# Altium footprint library STM32F746_AppBoard.PcbLib: 38 footprints (part 1 of 3)
Each footprint in its own frame and in the unit in brackets; x right, y up, seen from the top. Pads: shape width x height; smd on the part's side, far side on the other; paste and mask are expansions set on the pad; w line width, h text height; cw(c..) or ccw(c..) is an arc to the next point about the centre after c.
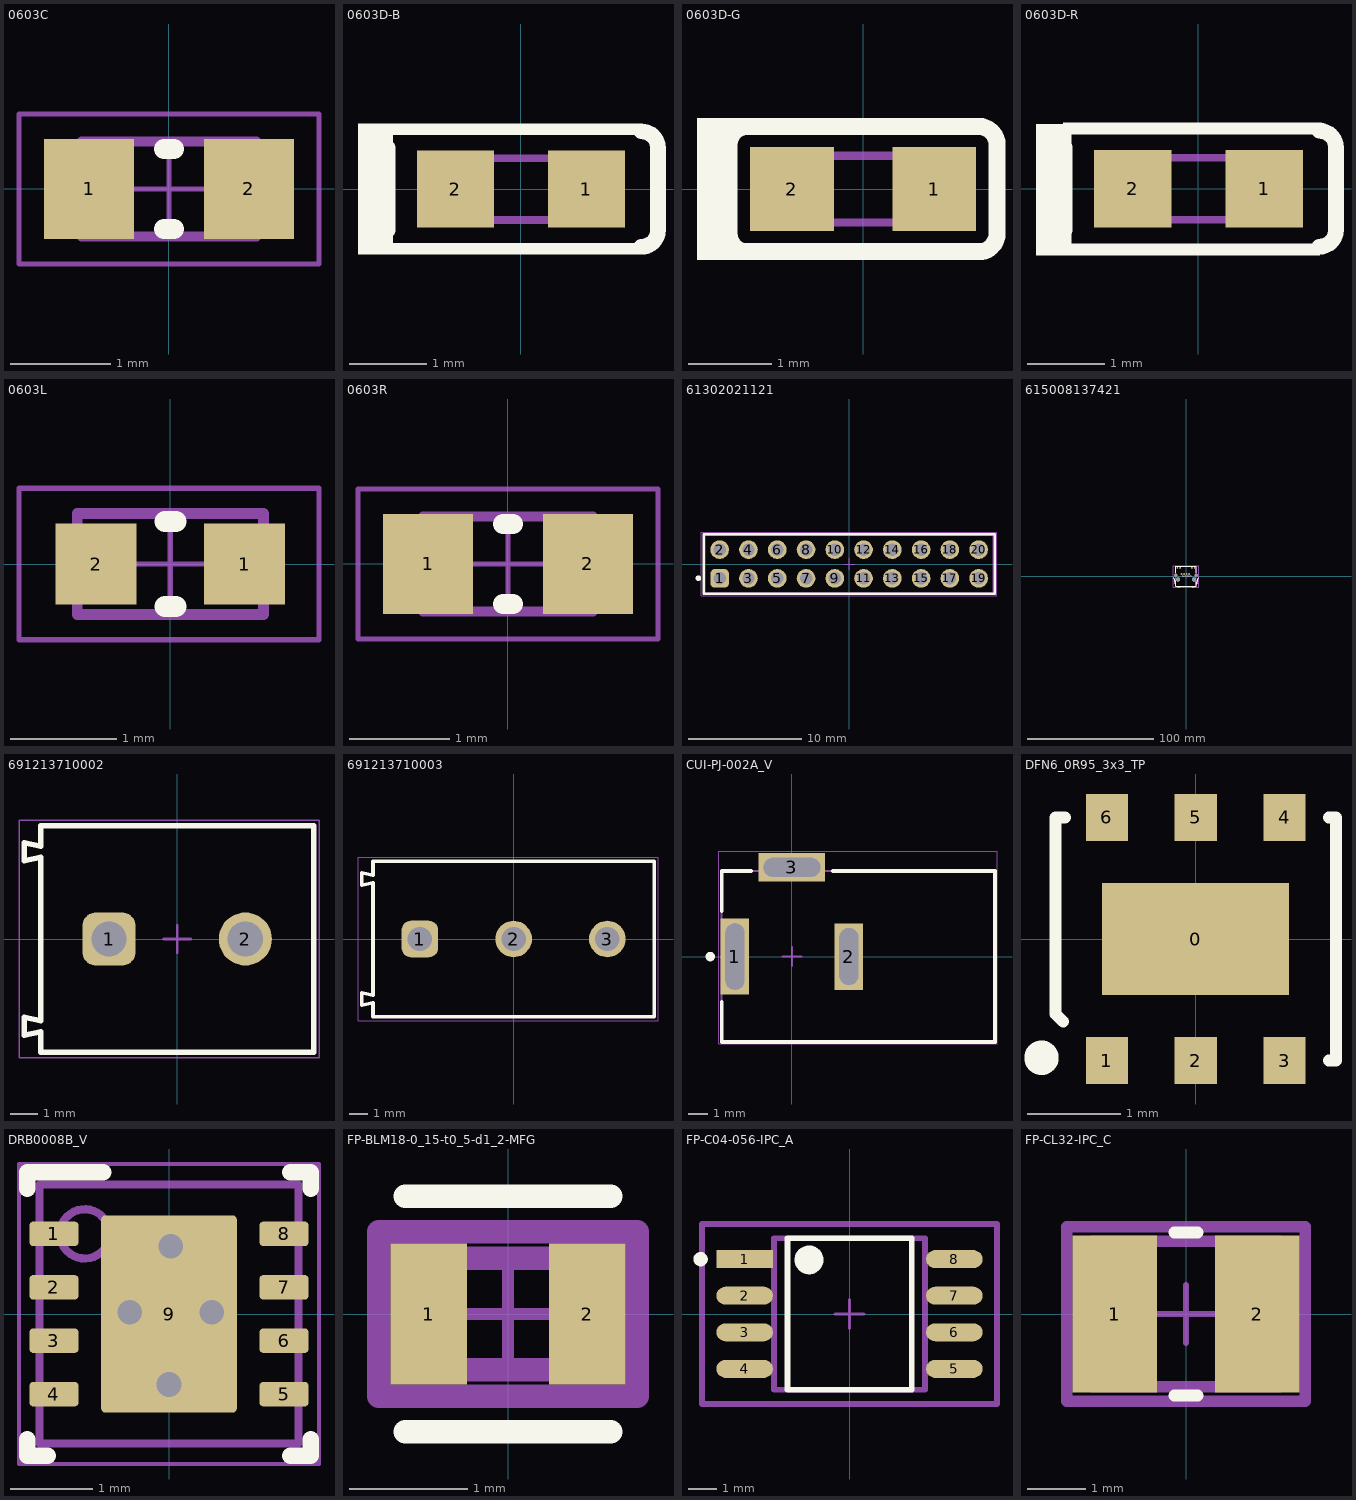
[diagram p0: the footprints below, top view; thin cyan lines are the x and y axes]

## 0603C [mm] "Chip Capacitor, Body 1.6x0.8mm, Height 1.0mm, IPC Medium Density"
height 1
pads (2):
  rect 0.9x1 smd: 1(-0.8,0) 2(0.8,0)
Top Overlay:
  lines w0.2: -0.05,-0.4 0.05,-0.4 ; -0.05,0.4 0.05,0.4
Mechanical 13:
  lines w0.1: -0.875,-0.475 0.875,-0.475 0.875,0.475 -0.875,0.475 -0.875,-0.475
Mechanical 15:
  lines w0.05: -0.475,0 0.475,0 ; 0,-0.475 0,0.475 ; -1.5,-0.75 1.5,-0.75 1.5,0.75 -1.5,0.75 -1.5,-0.75
3D body: height 1, standoff 0, extent 0.525,-0.475 0.875,0.475
3D body: height 1, standoff 0, extent -0.875,-0.475 -0.525,0.475
3D body: height 1, standoff 0, extent -0.525,-0.475 0.525,0.475

## 0603D-B [mm] "LED, SMT, Body 1.6 x 0.8 mm, 0.25mm Thickness"
height 0.25
pads (2):
  rect 1x1 smd paste+0 mask+0: 1(0.85,0) 2(-0.85,0)
Top Overlay:
  rectangle: -1.778,0.703 1.575,0.853
  rectangle: -2.115,-0.849 -1.658,0.852
  rectangle: -1.778,-0.85 1.575,-0.7
  lines w0.203: -1.729,-0.533 -1.729,0.533 ; 1.564,-0.749 ccw(c1.564,-0.533) 1.779,-0.533 1.779,0.533 ccw(c1.564,0.533) 1.564,0.749
Mechanical 7:
  lines w0.1: -0.8,-0.4 -0.8,0.4 0.8,0.4 0.8,-0.4 -0.8,-0.4
3D body: height 0.1, standoff 0, extent -0.8,-0.4 0.8,0.4
3D body: height 0.2, standoff 0.15, extent -0.254,-0.254 0.254,0.254
3D body: height 0.25, standoff 0.1, extent -0.6,-0.4 0.6,0.4

## 0603D-G [mm] "LED, SMT, Body 1.6 x 0.8 mm, 0.25mm Thickness"
height 0.25
pads (2):
  rect 1x1 smd paste+0 mask+0: 1(0.85,0) 2(-0.85,0)
Top Overlay:
  rectangle: -1.794,0.666 -1.144,0.852
  rectangle: -1.985,-0.85 -1.528,0.852
  rectangle: -1.794,-0.85 -1.21,-0.685
  lines w0.203: -1.602,-0.533 ccw(c-1.386,-0.533) -1.386,-0.749 1.386,-0.749 ccw(c1.386,-0.533) 1.602,-0.533 1.602,0.533 ccw(c1.386,0.533) 1.386,0.749 -1.386,0.749 ccw(c-1.386,0.533) -1.602,0.533 -1.602,-0.533
Mechanical 7:
  lines w0.1: -0.8,-0.4 -0.8,0.4 0.8,0.4 0.8,-0.4 -0.8,-0.4
3D body: height 0.1, standoff 0, extent -0.8,-0.4 0.8,0.4
3D body: height 0.2, standoff 0.15, extent -0.254,-0.254 0.254,0.254
3D body: height 0.25, standoff 0.1, extent -0.6,-0.4 0.6,0.4

## 0603D-R [mm] "LED, SMT, Body 1.6 x 0.8 mm, 0.25mm Thickness"
height 0.25
pads (2):
  rect 1x1 smd paste+0 mask+0: 1(0.85,0) 2(-0.85,0)
Top Overlay:
  rectangle: -1.778,-0.861 1.575,-0.711
  rectangle: -2.102,-0.861 -1.645,0.841
  rectangle: -1.753,0.705 1.6,0.855
  lines w0.203: -1.729,-0.533 -1.729,0.533 ; 1.564,-0.749 ccw(c1.564,-0.533) 1.779,-0.533 1.779,0.533 ccw(c1.564,0.533) 1.564,0.749
Mechanical 7:
  lines w0.1: -0.8,-0.4 -0.8,0.4 0.8,0.4 0.8,-0.4 -0.8,-0.4
3D body: height 0.1, standoff 0, extent -0.8,-0.4 0.8,0.4
3D body: height 0.2, standoff 0.15, extent -0.254,-0.254 0.254,0.254
3D body: height 0.25, standoff 0.1, extent -0.6,-0.4 0.6,0.4

## 0603L [mil] "Bead 0603L"
height 39.37
pads (2):
  rect 30x30 smd: 1(27.5,0) 2(-27.5,0)
Top Overlay:
  lines w7.87: -1.97,-15.74 1.97,-15.74 -1.97,-15.75 ; -1.97,15.75 1.97,15.75 -1.97,15.75
Mechanical 13:
  lines w3.94: -34.45,-18.7 -34.45,18.7 34.45,18.7 34.45,-18.7 -34.45,-18.7
Mechanical 15:
  lines w1.97: -18.7,0 18.7,0 ; 0,-18.7 0,18.7 ; -56,-28 55,-28 55,28 -56,28 -56,-28
3D body: height 23.62, standoff 0, extent -20.67,-18.7 20.67,18.7
3D body: height 23.62, standoff 0, extent -34.45,-18.7 -20.67,18.7
3D body: height 23.62, standoff 0, extent 20.67,-18.7 34.45,18.7

## 0603R [mm] "Chip Resistor, Body 1.6x0.8mm, IPC Medium Density"
height 0.6
pads (2):
  rect 0.9x1 smd: 1(-0.8,0) 2(0.8,0)
Top Overlay:
  lines w0.2: -0.05,-0.4 0.05,-0.4 ; -0.05,0.4 0.05,0.4
Mechanical 13:
  lines w0.1: -0.85,-0.475 -0.85,0.475 0.85,0.475 0.85,-0.475 -0.85,-0.475
Mechanical 15:
  lines w0.05: -0.475,0 0.475,0 ; 0,-0.475 0,0.475 ; -1.5,-0.75 -1.5,0.75 1.5,0.75 1.5,-0.75 -1.5,-0.75
3D body: height 0.6, standoff 0, extent 0.581,-0.474 0.85,0.475
3D body: height 0.6, standoff 0, extent -0.58,-0.474 0.581,0.475
3D body: height 0.6, standoff 0, extent -0.849,-0.474 -0.58,0.475

## 61302021121 [mm] "Pin Header, pitch 2.54 mm, THT, Vertical, dual row, 20p"
height 8.54
pads (20):
  rrect50% 1.65x1.65 hole 1.1: 1(-11.43,-1.27)
  round 1.65 hole 1.1: 2(-11.43,1.27) 3(-8.89,-1.27) 4(-8.89,1.27) 5(-6.35,-1.27) 6(-6.35,1.27) 7(-3.81,-1.27) 8(-3.81,1.27) 9(-1.27,-1.27) 10(-1.27,1.27) 11(1.27,-1.27) 12(1.27,1.27) 13(3.81,-1.27) 14(3.81,1.27) 15(6.35,-1.27) 16(6.35,1.27) 17(8.89,-1.27) 18(8.89,1.27) 19(11.43,-1.27) 20(11.43,1.27)
Top Overlay:
  circle w0.25: c-13.31,-1.25 r0.125
  lines w0.2: -12.85,-2.615 -12.85,2.615 12.85,2.615 12.85,-2.615 -12.85,-2.615
Top Courtyard:
  lines w0.05: -13.05,-2.815 13.05,-2.815 13.05,2.815 -13.05,2.815 -13.05,-2.815
Top Component Outline:
  lines w0.1: -12.7,-2.54 -12.7,2.54 12.7,2.54 12.7,-2.54 -12.7,-2.54
Top Designator:
  text ".Designator" at -3.999,-0.267 h0.8
Top Component Center:
  lines w0.05: -0.5,0 0.5,0 ; 0,-0.5 0,0.5
3D body "61302021121.stp": height 8.59, standoff -2.95, extent -12.7,-2.54 12.7,2.54

## 615008137421 [mm] "Modular Jack Horizontal Shielded with LED and EMI Panel Finger 8P8C Tab Up"
height 13.25
pads (16):
  rect 1.3x1.3 hole 0.8: 1(3.57,0.125)
  round 1.3 hole 0.8: 2(2.55,1.905) 3(1.53,0.125) 4(0.51,1.905) 5(-0.51,0.125) 6(-1.53,1.905) 7(-2.55,0.125) 8(-3.57,1.905) 9(-6.86,6.725) 10(-4.57,6.725) 11(4.57,6.725) 12(6.86,6.725)
  round 3.25 hole 3.25 unplated: MH1(-6.35,-2.415) MH2(6.35,-2.415)
  round 2.5 hole 1.7: S1(-8.125,1.015) S2(8.125,1.015)
Top Overlay:
  lines w0.2: -9.795,-1.045 cw(c-10.325,-1.565) -9.589,-1.46 ccw(c54.385,9.851) -8.911,-4.786 ccw(c30.346,12.141) -8.542,-5.618 cw(c-11.997,-7.419) -8.25,-6.35 ; -8.25,-3.624 -8.25,-7.875 8.25,-7.875 8.25,-3.599 ; -8.25,3.001 -8.25,7.875 8.25,7.875 8.25,2.976 ; -6.918,-7.874 ccw(c-5.71,-6.351) -4.503,-7.874 ; 4.503,-7.874 ccw(c5.71,-6.351) 6.918,-7.874 ; 8.25,-6.35 cw(c11.997,-7.419) 8.542,-5.618 ccw(c-30.346,12.141) 8.911,-4.786 ccw(c-54.385,9.851) 9.589,-1.46 cw(c10.325,-1.565) 9.795,-1.045
Mechanical 13:
  lines w0.1: -9.795,-1.045 cw(c-10.325,-1.565) -9.589,-1.46 ccw(c54.385,9.851) -8.911,-4.786 ccw(c30.346,12.141) -8.542,-5.618 cw(c-11.997,-7.419) -8.25,-6.35 ; -6.918,-7.874 ccw(c-5.71,-6.351) -4.503,-7.874 ; 4.503,-7.874 ccw(c5.71,-6.351) 6.918,-7.874 ; 8.25,-6.35 cw(c11.997,-7.419) 8.542,-5.618 ccw(c-30.346,12.141) 8.911,-4.786 ccw(c-54.385,9.851) 9.589,-1.46 cw(c10.325,-1.565) 9.795,-1.045 ; -8.25,-7.875 -8.25,7.875 8.25,7.875 8.25,-7.875 -8.25,-7.875
Mechanical 15:
  lines w0.05: -0.5,0 0.5,0 ; 0,-0.5 0,0.5 ; -10,-8.52 10,-8.52 10,8.32 -10,8.32 -10,-8.52
3D body "615008137421 (rev1).stp": height 15.13, standoff -3.31, extent -9.875,-8.33 9.875,8.12

## 691213710002 [mm] "5,00mm - modular - green - Horizontal entry with rising cage clamp -  10,0mm height - 02p"
height 10
pads (2):
  rrect50% 1.95x1.95 hole 1.3: 1(-2.5,0)
  round 1.95 hole 1.3: 2(2.5,0)
Top Overlay:
  lines w0.2: -5.6,-3.525 -5.6,-2.875 -5,-3 -5,3 -5.6,2.875 -5.6,3.525 -5,3.4 -5,4.15 5,4.15 5,-4.15 -5,-4.15 -5,-3.4 -5.6,-3.525
Top 3D Body:
  lines w0.1: -5.6,-3.525 -5.6,-2.875 -5,-3 -5,3 -5.6,2.875 -5.6,3.525 -5,3.4 -5,4.15 5,4.15 5,-4.15 -5,-4.15 -5,-3.4 -5.6,-3.525
Top Courtyard:
  lines w0.05: -5.8,-4.35 5.2,-4.35 5.2,4.35 -5.8,4.35 -5.8,-4.35
Top Assembly:
  lines w0.1: -5.6,-3.525 -5,-3.4 -5,-4.15 5,-4.15 5,4.15 -5,4.15 -5,3.4 -5.6,3.525 -5.6,2.875 -5,3 -5,-3 -5.6,-2.875 -5.6,-3.525
Top Designator:
  text ".Designator" at -2.917,-0.286 h0.8
Top Component Center:
  lines w0.1: -0.5,0 0.5,0 ; 0,-0.5 0,0.5
3D body "691213710002.stp": height 10.05, standoff -3.75, extent -5.6,-4.15 5,4.15

## 691213710003 [mm] "5,00mm - modular - green - Horizontal entry with rising cage clamp -  10,0mm height - 03p"
height 10
pads (3):
  rrect50% 1.95x1.95 hole 1.3: 1(-5,0)
  round 1.95 hole 1.3: 2(0,0) 3(5,0)
Top Overlay:
  lines w0.2: -8.1,-3.525 -8.1,-2.875 -7.5,-3 -7.5,3 -8.1,2.875 -8.1,3.525 -7.5,3.4 -7.5,4.15 7.5,4.15 7.5,-4.15 -7.5,-4.15 -7.5,-3.4 -8.1,-3.525
Top 3D Body:
  lines w0.1: -8.1,-3.525 -8.1,-2.875 -7.5,-3 -7.5,3 -8.1,2.875 -8.1,3.525 -7.5,3.4 -7.5,4.15 7.5,4.15 7.5,-4.15 -7.5,-4.15 -7.5,-3.4 -8.1,-3.525
Top Courtyard:
  lines w0.05: -8.3,-4.35 7.7,-4.35 7.7,4.35 -8.3,4.35 -8.3,-4.35
Top Assembly:
  lines w0.1: -8.1,-3.525 -7.5,-3.4 -7.5,-4.15 7.5,-4.15 7.5,4.15 -7.5,4.15 -7.5,3.4 -8.1,3.525 -8.1,2.875 -7.5,3 -7.5,-3 -8.1,-2.875 -8.1,-3.525
Top Designator:
  text ".Designator" at -2.917,-0.286 h0.8
Top Component Center:
  lines w0.1: -0.5,0 0.5,0 ; 0,-0.5 0,0.5
3D body "691213710003.stp": height 10.05, standoff -3.75, extent -8.1,-4.15 7.5,4.15

## CUI-PJ-002A_V [mm] "THD, 3-Leads, Body 14.4x9mm, Height 11mm"
height 11
pads (3):
  rect 1.5x4 hole 1 slot 3.5 at 90 deg: 1(-3,0)
  rect 1.5x3.5 hole 1 slot 3 at 90 deg: 2(3,0)
  rect 3.5x1.5 hole 1 slot 3 at 0 deg: 3(0,4.7)
Top Overlay:
  circle w0.25: c-4.3,0 r0.125
  lines w0.2: -3.7,-2.4 -3.7,-4.5 10.7,-4.5 10.7,4.5 2.15,4.5 ; -3.7,2.4 -3.7,4.5 -2.15,4.5
Mechanical 13:
  lines w0.1: -3.7,-4.5 -3.7,4.5 10.7,4.5 10.7,-4.5 -3.7,-4.5
Mechanical 15:
  lines w0.05: -3.85,-4.6 -3.85,5.55 10.8,5.55 10.8,-4.6 -3.85,-4.6
  lines w0.1: -0.5,0 0.5,0 ; 0,-0.5 0,0.5
3D body "pj-002a.stp": height 11, standoff -3.5, extent -3.7,-4.5 10.7,4.9

## DFN6_0R95_3x3_TP [mm] "500 mA low quiescent current and low noise voltage regulator"
height 1
pads (7):
  rect 2x1.2 smd: 0(0,0)
  rect 0.45x0.5 smd: 1(-0.95,-1.3) 2(0,-1.3) 3(0.95,-1.3) 4(0.95,1.3) 5(0,1.3) 6(-0.95,1.3)
Top Overlay:
  circle w0.25: c-1.649,-1.27 r0.059
  lines w0.127: -1.417,-0.883 -1.5,-0.8 -1.5,1.3 -1.397,1.3 ; 1.422,-1.3 1.5,-1.3 1.5,1.3 1.422,1.3
3D body: height 1, standoff 0.05, extent -1.5,-1.5 1.5,1.5

## DRB0008B_V [mm] "SON, 8-Leads, Body 3x3mm, Pitch 0.65mm, Thermal Pad 2.4x1.65mm, TI Recommended"
height 1
pads (9):
  rrect33% 0.6x0.3 smd: 1(-1.4,0.975) 2(-1.4,0.325) 3(-1.4,-0.325) 4(-1.4,-0.975) 5(1.4,-0.975) 6(1.4,-0.325) 7(1.4,0.325) 8(1.4,0.975)
  rrect6% 1.65x2.4 smd paste-1.2: 9(0,0)
via 0.021,0.823 diameter 0.6 hole 0.3
via 0,-0.857 diameter 0.6 hole 0.3
via -0.479,0.023 diameter 0.6 hole 0.3
via 0.521,0.023 diameter 0.6 hole 0.3
Top Overlay:
  lines w0.2: -1.725,-1.525 -1.725,-1.725 -1.475,-1.725 ; -1.725,1.525 -1.725,1.725 -0.8,1.725 ; 1.475,-1.725 1.725,-1.725 1.725,-1.525 ; 1.475,1.725 1.725,1.725 1.725,1.525
Top Paste:
  rectangle: -0.751,0.1 0.751,1.143
  rectangle: -0.751,-1.143 0.751,-0.1
Mechanical 1:
  text ".Designator" at -1.397,-0.889 h0.8
Mechanical 13:
  circle w0.1: c-1.025,0.975 r0.3
  lines w0.1: -1.575,-1.575 1.575,-1.575 1.575,1.575 -1.575,1.575 -1.575,-1.575
Mechanical 15:
  lines w0.05: -1.825,-1.825 1.825,-1.825 1.825,1.825 -1.825,1.825 -1.825,-1.825
  lines w0.1: -0.5,0 0.5,0 ; 0,-0.5 0,0.5
3D body "DRB0008B.stp": height 0.96, standoff 0.01, extent -1.5,-1.5 1.5,1.5

## FP-BLM18-0_15-t0_5-d1_2-MFG [mm]
pads (2):
  rect 0.65x1.2 smd paste-1000 mask-1000: 1(-0.675,0) 2(0.675,0)
Top Overlay:
  lines w0.2: -0.875,-1 0.875,-1 ; -0.875,1 0.875,1
Top Paste:
  rectangle: 0.35,-0.35 1,0.35
  rectangle: -1,-0.35 -0.35,0.35
Top Solder:
  rectangle: 0.35,-0.35 1,0.35
  rectangle: -1,-0.35 -0.35,0.35
Top 3D Body:
  lines w0.2: -0.875,-0.475 -0.875,0.475 0.875,0.475 0.875,-0.475 -0.875,-0.475
Top Courtyard:
  lines w0.2: -1.1,-0.7 -1.1,0.7 1.1,0.7 1.1,-0.7 -1.1,-0.7
Top Assembly:
  lines w0.2: -1.1,-0.7 -1.1,0.7 1.1,0.7 1.1,-0.7 -1.1,-0.7
  text ".Designator" at 0.15,0.228 h0.8
Top Component Center:
  lines w0.1: -0.5,0 0.5,0 ; 0,-0.5 0,0.5
3D body "FBead_Murata_BLM18SG121TZ1D_eec.STEP": height 0.65, standoff 0, extent -0.8,-0.4 0.8,0.4

## FP-C04-056-IPC_A [mm]
pads (8):
  rect 1.965x0.626 smd paste+0 mask+0: 1(-3.64,1.905)
  rrect100% 1.965x0.626 smd paste+0 mask+0: 2(-3.64,0.635) 3(-3.64,-0.635) 4(-3.64,-1.905) 5(3.64,-1.905) 6(3.64,-0.635) 7(3.64,0.635) 8(3.64,1.905)
Top Overlay:
  circle w0.25: c-5.173,1.905 r0.125
  circle w0.5: c-1.408,1.88 r0.25
  lines w0.2: -2.158,-2.63 -2.158,2.63 2.158,2.63 2.158,-2.63 -2.158,-2.63
Top 3D Body:
  lines w0.2: -2.625,-2.63 -2.625,2.63 2.625,2.63 2.625,-2.63 -2.625,-2.63
Top Courtyard:
  lines w0.2: -5.123,-3.13 -5.123,3.13 5.123,3.13 5.123,-3.13 -5.123,-3.13
Top Assembly:
  lines w0.2: -5.123,-3.13 -5.123,3.13 5.123,3.13 5.123,-3.13 -5.123,-3.13
  text ".Designator" at 0.15,0.417 h0.8
Top Component Center:
  lines w0.1: -0.5,0 0.5,0 ; 0,-0.5 0,0.5
3D body "IC_Microchip_SST26VF032BT-104I-SM_eec.STEP": height 0.25, standoff 0, extent -5.123,-3.13 5.123,3.13

## FP-CL32-IPC_C [mm]
pads (2):
  rect 1.453x2.704 smd paste+0 mask+0: 1(-1.225,0) 2(1.225,0)
Top Overlay:
  lines w0.2: -0.199,-1.4 0.199,-1.4 ; -0.199,1.4 0.199,1.4
Top 3D Body:
  lines w0.2: -1.6,-1.25 1.6,-1.25 1.6,1.25 -1.6,1.25 -1.6,-1.25
Top Courtyard:
  lines w0.2: -2.052,-1.5 2.052,-1.5 2.052,1.5 -2.052,1.5 -2.052,-1.5
Top Assembly:
  lines w0.2: -2.052,-1.5 2.052,-1.5 2.052,1.5 -2.052,1.5 -2.052,-1.5
  text ".Designator" at 0.15,0.417 h0.8
Top Component Center:
  lines w0.1: -0.5,0 0.5,0 ; 0,-0.5 0,0.5
3D body "Cap_Samsung_Electro-Mechanics_America_Inc_CL32C472JBFNNNE_eec.STEP": height 2.8, standoff 0, extent -1.6,-1.25 1.6,1.25